# Altium integrated library Linear Technology Power Management System Supervisor, Monitor and Control.IntLib: 1611 symbols (part 49 of 100)
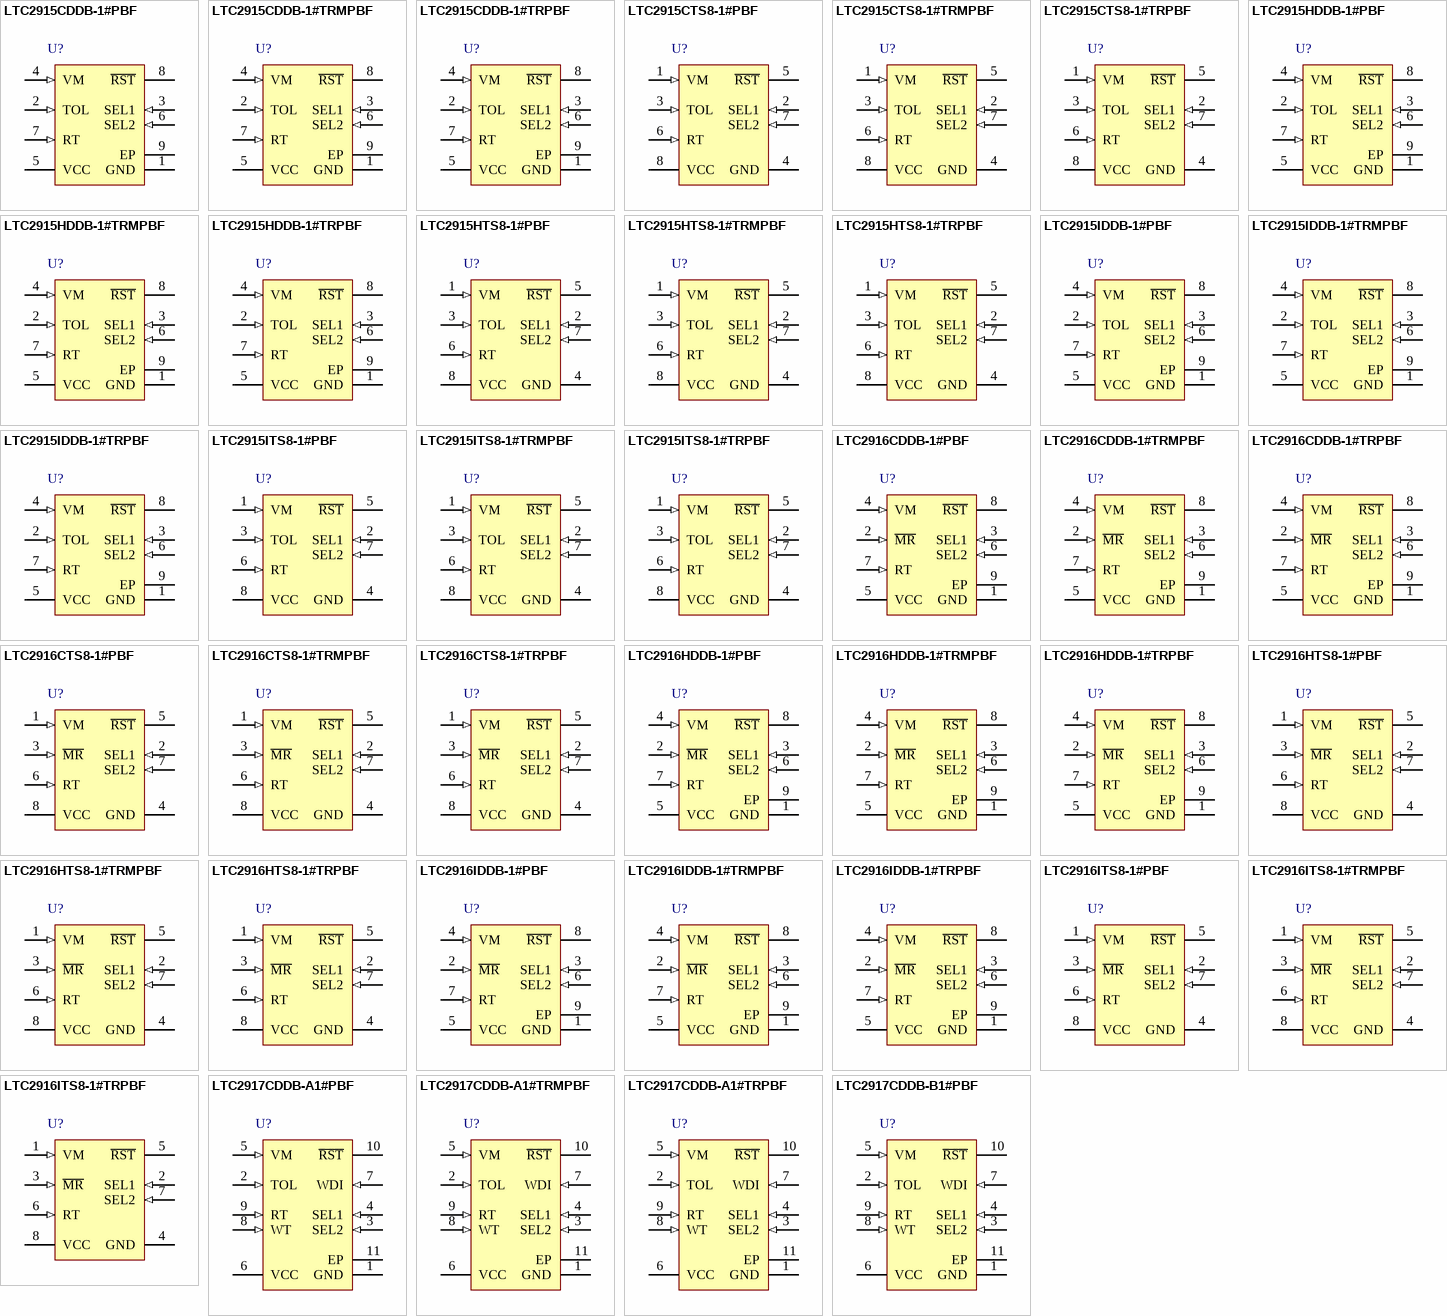
[diagram p93: symbols LTC2915CDDB-1#PBF to LTC2917CDDB-B1#PBF]

## LTC2915ITS8-1#TRPBF
designator U?
Low Voltage Supervisor with 27 Selectable Thresholds, 8-pin SOT23 (TS8-8), -40 to 85 degC, Pb-Free, Tape and Reel; Manufacturer: Linear Technology; PartNumber: LTC2915ITS8-1#TRPBF; Number of Supplies(#): 1; DatasheetVersion: Rev. A; PackageVersion: Rev. A, 08/2010; PackageReference: TS8-8; PackageDescription: 8-Pin Plastic TSOT-23, Body 2.9 x 1.63 mm, Pitch 0.65 mm; Supplier 1: Digi-Key; Supplier Part Number 1: LTC2915ITS8-1#TRPBF-ND; Supplier 2: Newark; Supplier Part Number 2: 56M6956; Packing: Tape and Reel; RoHS: TRUE; Mounting Technology: Surface Mount; Code_JEDEC: MO-193; ComponentLink1Description: Manufacturer URL; ComponentLink1URL: http://www.linear.com/; ComponentLink2Description: Datasheet; ComponentLink2URL: http://cds.linear.com/docs/en/datasheet/29156fa.pdf; ComponentLink3Description: Package Specification; ComponentLink3URL: http://cds.linear.com/docs/en/packaging/SOT_8_05-08-1637.pdf
footprint LT-TS8-8-TSOT-23_V (SOT23, 8-Leads, Body 2.9x1.75mm, Pitch 0.65mm)
pins: 1 VM (in) "Voltage Monitor Input to R\S\T\ Comparator. SEL1, SEL2 and TOL inputs select the exact threshold that asserts the R\S\T\ output.", 2 SEL1 (in) "Monitor Voltage Select Three-State Inputs. SEL1 and SEL2 control the nominal threshold voltage that VM is set to monitor. Connect to VCC, GND or leave unconnected in open state. (See Table 1).", 3 TOL (in) "Three-State Input for Supply Tolerance Selection (-5%, -10% or -15%). Controls the tolerance band at which the VM supply is monitored. Connect to VCC, GND, or leave unconnected in open state. (See Table 2).", 4 GND (power) "Device Ground.", 5 ~{RST} (oc) "Open Drain R\S\T\ Output. Asserts low when VM is below the threshold selected by SEL1, SEL2 and TOL input pins. Held low for an adjustable timeout after VM input is above threshold.", 6 RT (in) "Reset Timeout Control Pin. Attach an external Capacitor (CRT) to GND to set a reset timeout of 9ms/nF. Floating RT generates a reset timeout of approximately 400us. Tie RT to VCC to generate a reset timeout of approximately (See Datasheet)", 7 SEL2 (in) "Monitor Voltage Select Three-State Inputs. SEL1 and SEL2 control the nominal threshold voltage that VM is set to monitor. Connect to VCC, GND or leave unconnected in open state. (See Table 1).", 8 VCC (power) "Power Supply Input. Bypass this pin to ground with a 0.1uF ceramic capacitor. A minimum of 1.5V on VCC ensures that the part is out of under voltage lockout and that the voltage thresholds are accurate. Operates as a direct (See Datasheet)"

## LTC2916CDDB-1#PBF
designator U?
Low Voltage Supervisor with 9 Selectable Thresholds and Manual Reset Input, 8-pin SON (DDB-8), 0 to 70 degC, Pb-Free; Manufacturer: Linear Technology; PartNumber: LTC2916CDDB-1#PBF; Number of Supplies(#): 1; DatasheetVersion: Rev. A; PackageVersion: Rev. B, 06/2010; PackageReference: DDB-8; PackageDescription: 8-Pin Plastic DFN, Body 3 x 2 mm, Pitch 0.5 mm; RoHS: TRUE; Mounting Technology: Surface Mount; Code_JEDEC: MO-229; ComponentLink1Description: Manufacturer URL; ComponentLink1URL: http://www.linear.com/; ComponentLink2Description: Datasheet; ComponentLink2URL: http://cds.linear.com/docs/en/datasheet/29156fa.pdf; ComponentLink3Description: Package Specification; ComponentLink3URL: http://cds.linear.com/docs/en/packaging/DFN_8_05-08-1702.pdf
footprint LT-DDB-8_V (SON, 8-Leads, Body 3x2mm, Pitch 0.5mm, Thermal Pad 2.2x0.61mm)
pins: 1 GND (power) "Device Ground.", 2 ~{MR} (in) "Manual Reset Input (Active Low). A low level on the M\R\ input causes the part to issue a reset, which is released one reset timeout after the input goes high. The pin has an internal 100k pull-up to VCC, and thus may (See Datasheet)", 3 SEL1 (in) "Monitor Voltage Select Three-State Inputs. SEL1 and SEL2 control the nominal threshold voltage that VM is set to monitor. Connect to VCC, GND or leave unconnected in open state. (See Table 1).", 4 VM (in) "Voltage Monitor Input to R\S\T\ Comparator. SEL1, SEL2 and TOL inputs select the exact threshold that asserts the R\S\T\ output.", 5 VCC (power) "Power Supply Input. Bypass this pin to ground with a 0.1uF ceramic capacitor. A minimum of 1.5V on VCC ensures that the part is out of under voltage lockout and that the voltage thresholds are accurate. Operates as a direct (See Datasheet)", 6 SEL2 (in) "Monitor Voltage Select Three-State Inputs. SEL1 and SEL2 control the nominal threshold voltage that VM is set to monitor. Connect to VCC, GND or leave unconnected in open state. (See Table 1).", 7 RT (in) "Reset Timeout Control Pin. Attach an external Capacitor (CRT) to GND to set a reset timeout of 9ms/nF. Floating RT generates a reset timeout of approximately 400us. Tie RT to VCC to generate a reset timeout of approximately (See Datasheet)", 8 ~{RST} (oc) "Open Drain R\S\T\ Output. Asserts low when VM is below the threshold selected by SEL1, SEL2 and TOL input pins. Held low for an adjustable timeout after VM input is above threshold.", 9 EP (power) "Exposed Pad may be left open or connected to device ground."

## LTC2916CDDB-1#TRMPBF
designator U?
Low Voltage Supervisor with 9 Selectable Thresholds and Manual Reset Input, 8-pin SON (DDB-8), 0 to 70 degC, Pb-Free, Mini Tape and Reel; Manufacturer: Linear Technology; PartNumber: LTC2916CDDB-1#TRMPBF; Number of Supplies(#): 1; DatasheetVersion: Rev. A; PackageVersion: Rev. B, 06/2010; PackageReference: DDB-8; PackageDescription: 8-Pin Plastic DFN, Body 3 x 2 mm, Pitch 0.5 mm; Supplier 1: Digi-Key; Supplier Part Number 1: LTC2916CDDB-1#TRMPBFTR-ND; Supplier 2: Digi-Key; Supplier Part Number 2: LTC2916CDDB-1#TRMPBFCT-ND; Supplier 3: Digi-Key; Supplier Part Number 3: LTC2916CDDB-1#TRMPBFDKR-ND; Supplier 4: Farnell; Supplier Part Number 4: 1715066; Supplier 5: Newark; Supplier Part Number 5: 56M6957; Packing: Mini Tape and Reel; RoHS: TRUE; Mounting Technology: Surface Mount; Code_JEDEC: MO-229; ComponentLink1Description: Manufacturer URL; ComponentLink1URL: http://www.linear.com/; ComponentLink2Description: Datasheet; ComponentLink2URL: http://cds.linear.com/docs/en/datasheet/29156fa.pdf; ComponentLink3Description: Package Specification; ComponentLink3URL: http://cds.linear.com/docs/en/packaging/DFN_8_05-08-1702.pdf
footprint LT-DDB-8_V (SON, 8-Leads, Body 3x2mm, Pitch 0.5mm, Thermal Pad 2.2x0.61mm)
pins: 1 GND (power) "Device Ground.", 2 ~{MR} (in) "Manual Reset Input (Active Low). A low level on the M\R\ input causes the part to issue a reset, which is released one reset timeout after the input goes high. The pin has an internal 100k pull-up to VCC, and thus may (See Datasheet)", 3 SEL1 (in) "Monitor Voltage Select Three-State Inputs. SEL1 and SEL2 control the nominal threshold voltage that VM is set to monitor. Connect to VCC, GND or leave unconnected in open state. (See Table 1).", 4 VM (in) "Voltage Monitor Input to R\S\T\ Comparator. SEL1, SEL2 and TOL inputs select the exact threshold that asserts the R\S\T\ output.", 5 VCC (power) "Power Supply Input. Bypass this pin to ground with a 0.1uF ceramic capacitor. A minimum of 1.5V on VCC ensures that the part is out of under voltage lockout and that the voltage thresholds are accurate. Operates as a direct (See Datasheet)", 6 SEL2 (in) "Monitor Voltage Select Three-State Inputs. SEL1 and SEL2 control the nominal threshold voltage that VM is set to monitor. Connect to VCC, GND or leave unconnected in open state. (See Table 1).", 7 RT (in) "Reset Timeout Control Pin. Attach an external Capacitor (CRT) to GND to set a reset timeout of 9ms/nF. Floating RT generates a reset timeout of approximately 400us. Tie RT to VCC to generate a reset timeout of approximately (See Datasheet)", 8 ~{RST} (oc) "Open Drain R\S\T\ Output. Asserts low when VM is below the threshold selected by SEL1, SEL2 and TOL input pins. Held low for an adjustable timeout after VM input is above threshold.", 9 EP (power) "Exposed Pad may be left open or connected to device ground."

## LTC2916CDDB-1#TRPBF
designator U?
Low Voltage Supervisor with 9 Selectable Thresholds and Manual Reset Input, 8-pin SON (DDB-8), 0 to 70 degC, Pb-Free, Tape and Reel; Manufacturer: Linear Technology; PartNumber: LTC2916CDDB-1#TRPBF; Number of Supplies(#): 1; DatasheetVersion: Rev. A; PackageVersion: Rev. B, 06/2010; PackageReference: DDB-8; PackageDescription: 8-Pin Plastic DFN, Body 3 x 2 mm, Pitch 0.5 mm; Supplier 1: Digi-Key; Supplier Part Number 1: LTC2916CDDB-1#TRPBF-ND; Supplier 2: Newark; Supplier Part Number 2: 56M6958; Packing: Tape and Reel; RoHS: TRUE; Mounting Technology: Surface Mount; Code_JEDEC: MO-229; ComponentLink1Description: Manufacturer URL; ComponentLink1URL: http://www.linear.com/; ComponentLink2Description: Datasheet; ComponentLink2URL: http://cds.linear.com/docs/en/datasheet/29156fa.pdf; ComponentLink3Description: Package Specification; ComponentLink3URL: http://cds.linear.com/docs/en/packaging/DFN_8_05-08-1702.pdf
footprint LT-DDB-8_V (SON, 8-Leads, Body 3x2mm, Pitch 0.5mm, Thermal Pad 2.2x0.61mm)
pins: 1 GND (power) "Device Ground.", 2 ~{MR} (in) "Manual Reset Input (Active Low). A low level on the M\R\ input causes the part to issue a reset, which is released one reset timeout after the input goes high. The pin has an internal 100k pull-up to VCC, and thus may (See Datasheet)", 3 SEL1 (in) "Monitor Voltage Select Three-State Inputs. SEL1 and SEL2 control the nominal threshold voltage that VM is set to monitor. Connect to VCC, GND or leave unconnected in open state. (See Table 1).", 4 VM (in) "Voltage Monitor Input to R\S\T\ Comparator. SEL1, SEL2 and TOL inputs select the exact threshold that asserts the R\S\T\ output.", 5 VCC (power) "Power Supply Input. Bypass this pin to ground with a 0.1uF ceramic capacitor. A minimum of 1.5V on VCC ensures that the part is out of under voltage lockout and that the voltage thresholds are accurate. Operates as a direct (See Datasheet)", 6 SEL2 (in) "Monitor Voltage Select Three-State Inputs. SEL1 and SEL2 control the nominal threshold voltage that VM is set to monitor. Connect to VCC, GND or leave unconnected in open state. (See Table 1).", 7 RT (in) "Reset Timeout Control Pin. Attach an external Capacitor (CRT) to GND to set a reset timeout of 9ms/nF. Floating RT generates a reset timeout of approximately 400us. Tie RT to VCC to generate a reset timeout of approximately (See Datasheet)", 8 ~{RST} (oc) "Open Drain R\S\T\ Output. Asserts low when VM is below the threshold selected by SEL1, SEL2 and TOL input pins. Held low for an adjustable timeout after VM input is above threshold.", 9 EP (power) "Exposed Pad may be left open or connected to device ground."

## LTC2916CTS8-1#PBF
designator U?
Low Voltage Supervisor with 9 Selectable Thresholds and Manual Reset Input, 8-pin SOT23 (TS8-8), 0 to 70 degC, Pb-Free; Manufacturer: Linear Technology; PartNumber: LTC2916CTS8-1#PBF; Number of Supplies(#): 1; DatasheetVersion: Rev. A; PackageVersion: Rev. A, 08/2010; PackageReference: TS8-8; PackageDescription: 8-Pin Plastic TSOT-23, Body 2.9 x 1.63 mm, Pitch 0.65 mm; Supplier 1: Farnell; Supplier Part Number 1: 2295424; Supplier 2: Newark; Supplier Part Number 2: 10R5275; Supplier 3: Newark; Supplier Part Number 3: 69W6141; RoHS: TRUE; Mounting Technology: Surface Mount; Code_JEDEC: MO-193; ComponentLink1Description: Manufacturer URL; ComponentLink1URL: http://www.linear.com/; ComponentLink2Description: Datasheet; ComponentLink2URL: http://cds.linear.com/docs/en/datasheet/29156fa.pdf; ComponentLink3Description: Package Specification; ComponentLink3URL: http://cds.linear.com/docs/en/packaging/SOT_8_05-08-1637.pdf
footprint LT-TS8-8-TSOT-23_V (SOT23, 8-Leads, Body 2.9x1.75mm, Pitch 0.65mm)
pins: 1 VM (in) "Voltage Monitor Input to R\S\T\ Comparator. SEL1, SEL2 and TOL inputs select the exact threshold that asserts the R\S\T\ output.", 2 SEL1 (in) "Monitor Voltage Select Three-State Inputs. SEL1 and SEL2 control the nominal threshold voltage that VM is set to monitor. Connect to VCC, GND or leave unconnected in open state. (See Table 1).", 3 ~{MR} (in) "Manual Reset Input (Active Low). A low level on the M\R\ input causes the part to issue a reset, which is released one reset timeout after the input goes high. The pin has an internal 100k pull-up to VCC, and thus may (See Datasheet)", 4 GND (power) "Device Ground.", 5 ~{RST} (oc) "Open Drain R\S\T\ Output. Asserts low when VM is below the threshold selected by SEL1, SEL2 and TOL input pins. Held low for an adjustable timeout after VM input is above threshold.", 6 RT (in) "Reset Timeout Control Pin. Attach an external Capacitor (CRT) to GND to set a reset timeout of 9ms/nF. Floating RT generates a reset timeout of approximately 400us. Tie RT to VCC to generate a reset timeout of approximately (See Datasheet)", 7 SEL2 (in) "Monitor Voltage Select Three-State Inputs. SEL1 and SEL2 control the nominal threshold voltage that VM is set to monitor. Connect to VCC, GND or leave unconnected in open state. (See Table 1).", 8 VCC (power) "Power Supply Input. Bypass this pin to ground with a 0.1uF ceramic capacitor. A minimum of 1.5V on VCC ensures that the part is out of under voltage lockout and that the voltage thresholds are accurate. Operates as a direct (See Datasheet)"

## LTC2916CTS8-1#TRMPBF
designator U?
Low Voltage Supervisor with 9 Selectable Thresholds and Manual Reset Input, 8-pin SOT23 (TS8-8), 0 to 70 degC, Pb-Free, Mini Tape and Reel; Manufacturer: Linear Technology; PartNumber: LTC2916CTS8-1#TRMPBF; Number of Supplies(#): 1; DatasheetVersion: Rev. A; PackageVersion: Rev. A, 08/2010; PackageReference: TS8-8; PackageDescription: 8-Pin Plastic TSOT-23, Body 2.9 x 1.63 mm, Pitch 0.65 mm; Supplier 1: Digi-Key; Supplier Part Number 1: LTC2916CTS8-1#TRMPBFTR-ND; Supplier 2: Digi-Key; Supplier Part Number 2: LTC2916CTS8-1#TRMPBFCT-ND; Supplier 3: Digi-Key; Supplier Part Number 3: LTC2916CTS8-1#TRMPBFDKR-ND; Supplier 4: Newark; Supplier Part Number 4: 56M6959; Packing: Mini Tape and Reel; RoHS: TRUE; Mounting Technology: Surface Mount; Code_JEDEC: MO-193; ComponentLink1Description: Manufacturer URL; ComponentLink1URL: http://www.linear.com/; ComponentLink2Description: Datasheet; ComponentLink2URL: http://cds.linear.com/docs/en/datasheet/29156fa.pdf; ComponentLink3Description: Package Specification; ComponentLink3URL: http://cds.linear.com/docs/en/packaging/SOT_8_05-08-1637.pdf
footprint LT-TS8-8-TSOT-23_V (SOT23, 8-Leads, Body 2.9x1.75mm, Pitch 0.65mm)
pins: 1 VM (in) "Voltage Monitor Input to R\S\T\ Comparator. SEL1, SEL2 and TOL inputs select the exact threshold that asserts the R\S\T\ output.", 2 SEL1 (in) "Monitor Voltage Select Three-State Inputs. SEL1 and SEL2 control the nominal threshold voltage that VM is set to monitor. Connect to VCC, GND or leave unconnected in open state. (See Table 1).", 3 ~{MR} (in) "Manual Reset Input (Active Low). A low level on the M\R\ input causes the part to issue a reset, which is released one reset timeout after the input goes high. The pin has an internal 100k pull-up to VCC, and thus may (See Datasheet)", 4 GND (power) "Device Ground.", 5 ~{RST} (oc) "Open Drain R\S\T\ Output. Asserts low when VM is below the threshold selected by SEL1, SEL2 and TOL input pins. Held low for an adjustable timeout after VM input is above threshold.", 6 RT (in) "Reset Timeout Control Pin. Attach an external Capacitor (CRT) to GND to set a reset timeout of 9ms/nF. Floating RT generates a reset timeout of approximately 400us. Tie RT to VCC to generate a reset timeout of approximately (See Datasheet)", 7 SEL2 (in) "Monitor Voltage Select Three-State Inputs. SEL1 and SEL2 control the nominal threshold voltage that VM is set to monitor. Connect to VCC, GND or leave unconnected in open state. (See Table 1).", 8 VCC (power) "Power Supply Input. Bypass this pin to ground with a 0.1uF ceramic capacitor. A minimum of 1.5V on VCC ensures that the part is out of under voltage lockout and that the voltage thresholds are accurate. Operates as a direct (See Datasheet)"

## LTC2916CTS8-1#TRPBF
designator U?
Low Voltage Supervisor with 9 Selectable Thresholds and Manual Reset Input, 8-pin SOT23 (TS8-8), 0 to 70 degC, Pb-Free, Tape and Reel; Manufacturer: Linear Technology; PartNumber: LTC2916CTS8-1#TRPBF; Number of Supplies(#): 1; DatasheetVersion: Rev. A; PackageVersion: Rev. A, 08/2010; PackageReference: TS8-8; PackageDescription: 8-Pin Plastic TSOT-23, Body 2.9 x 1.63 mm, Pitch 0.65 mm; Supplier 1: Digi-Key; Supplier Part Number 1: LTC2916CTS8-1#TRPBF-ND; Packing: Tape and Reel; RoHS: TRUE; Mounting Technology: Surface Mount; Code_JEDEC: MO-193; ComponentLink1Description: Manufacturer URL; ComponentLink1URL: http://www.linear.com/; ComponentLink2Description: Datasheet; ComponentLink2URL: http://cds.linear.com/docs/en/datasheet/29156fa.pdf; ComponentLink3Description: Package Specification; ComponentLink3URL: http://cds.linear.com/docs/en/packaging/SOT_8_05-08-1637.pdf
footprint LT-TS8-8-TSOT-23_V (SOT23, 8-Leads, Body 2.9x1.75mm, Pitch 0.65mm)
pins: 1 VM (in) "Voltage Monitor Input to R\S\T\ Comparator. SEL1, SEL2 and TOL inputs select the exact threshold that asserts the R\S\T\ output.", 2 SEL1 (in) "Monitor Voltage Select Three-State Inputs. SEL1 and SEL2 control the nominal threshold voltage that VM is set to monitor. Connect to VCC, GND or leave unconnected in open state. (See Table 1).", 3 ~{MR} (in) "Manual Reset Input (Active Low). A low level on the M\R\ input causes the part to issue a reset, which is released one reset timeout after the input goes high. The pin has an internal 100k pull-up to VCC, and thus may (See Datasheet)", 4 GND (power) "Device Ground.", 5 ~{RST} (oc) "Open Drain R\S\T\ Output. Asserts low when VM is below the threshold selected by SEL1, SEL2 and TOL input pins. Held low for an adjustable timeout after VM input is above threshold.", 6 RT (in) "Reset Timeout Control Pin. Attach an external Capacitor (CRT) to GND to set a reset timeout of 9ms/nF. Floating RT generates a reset timeout of approximately 400us. Tie RT to VCC to generate a reset timeout of approximately (See Datasheet)", 7 SEL2 (in) "Monitor Voltage Select Three-State Inputs. SEL1 and SEL2 control the nominal threshold voltage that VM is set to monitor. Connect to VCC, GND or leave unconnected in open state. (See Table 1).", 8 VCC (power) "Power Supply Input. Bypass this pin to ground with a 0.1uF ceramic capacitor. A minimum of 1.5V on VCC ensures that the part is out of under voltage lockout and that the voltage thresholds are accurate. Operates as a direct (See Datasheet)"

## LTC2916HDDB-1#PBF
designator U?
Low Voltage Supervisor with 9 Selectable Thresholds and Manual Reset Input, 8-pin SON (DDB-8), -40 to 125 degC, Pb-Free; Manufacturer: Linear Technology; PartNumber: LTC2916HDDB-1#PBF; Number of Supplies(#): 1; DatasheetVersion: Rev. A; PackageVersion: Rev. B, 06/2010; PackageReference: DDB-8; PackageDescription: 8-Pin Plastic DFN, Body 3 x 2 mm, Pitch 0.5 mm; RoHS: TRUE; Mounting Technology: Surface Mount; Code_JEDEC: MO-229; ComponentLink1Description: Manufacturer URL; ComponentLink1URL: http://www.linear.com/; ComponentLink2Description: Datasheet; ComponentLink2URL: http://cds.linear.com/docs/en/datasheet/29156fa.pdf; ComponentLink3Description: Package Specification; ComponentLink3URL: http://cds.linear.com/docs/en/packaging/DFN_8_05-08-1702.pdf
footprint LT-DDB-8_V (SON, 8-Leads, Body 3x2mm, Pitch 0.5mm, Thermal Pad 2.2x0.61mm)
pins: 1 GND (power) "Device Ground.", 2 ~{MR} (in) "Manual Reset Input (Active Low). A low level on the M\R\ input causes the part to issue a reset, which is released one reset timeout after the input goes high. The pin has an internal 100k pull-up to VCC, and thus may (See Datasheet)", 3 SEL1 (in) "Monitor Voltage Select Three-State Inputs. SEL1 and SEL2 control the nominal threshold voltage that VM is set to monitor. Connect to VCC, GND or leave unconnected in open state. (See Table 1).", 4 VM (in) "Voltage Monitor Input to R\S\T\ Comparator. SEL1, SEL2 and TOL inputs select the exact threshold that asserts the R\S\T\ output.", 5 VCC (power) "Power Supply Input. Bypass this pin to ground with a 0.1uF ceramic capacitor. A minimum of 1.5V on VCC ensures that the part is out of under voltage lockout and that the voltage thresholds are accurate. Operates as a direct (See Datasheet)", 6 SEL2 (in) "Monitor Voltage Select Three-State Inputs. SEL1 and SEL2 control the nominal threshold voltage that VM is set to monitor. Connect to VCC, GND or leave unconnected in open state. (See Table 1).", 7 RT (in) "Reset Timeout Control Pin. Attach an external Capacitor (CRT) to GND to set a reset timeout of 9ms/nF. Floating RT generates a reset timeout of approximately 400us. Tie RT to VCC to generate a reset timeout of approximately (See Datasheet)", 8 ~{RST} (oc) "Open Drain R\S\T\ Output. Asserts low when VM is below the threshold selected by SEL1, SEL2 and TOL input pins. Held low for an adjustable timeout after VM input is above threshold.", 9 EP (power) "Exposed Pad may be left open or connected to device ground."

## LTC2916HDDB-1#TRMPBF
designator U?
Low Voltage Supervisor with 9 Selectable Thresholds and Manual Reset Input, 8-pin SON (DDB-8), -40 to 125 degC, Pb-Free, Mini Tape and Reel; Manufacturer: Linear Technology; PartNumber: LTC2916HDDB-1#TRMPBF; Number of Supplies(#): 1; DatasheetVersion: Rev. A; PackageVersion: Rev. B, 06/2010; PackageReference: DDB-8; PackageDescription: 8-Pin Plastic DFN, Body 3 x 2 mm, Pitch 0.5 mm; Supplier 1: Digi-Key; Supplier Part Number 1: LTC2916HDDB-1#TRMPBFTR-ND; Supplier 2: Digi-Key; Supplier Part Number 2: LTC2916HDDB-1#TRMPBFCT-ND; Supplier 3: Digi-Key; Supplier Part Number 3: LTC2916HDDB-1#TRMPBFDKR-ND; Supplier 4: Farnell; Supplier Part Number 4: 1715067; Supplier 5: Farnell; Supplier Part Number 5: 1715067RL; Packing: Mini Tape and Reel; RoHS: TRUE; Mounting Technology: Surface Mount; Code_JEDEC: MO-229; ComponentLink1Description: Manufacturer URL; ComponentLink1URL: http://www.linear.com/; ComponentLink2Description: Datasheet; ComponentLink2URL: http://cds.linear.com/docs/en/datasheet/29156fa.pdf; ComponentLink3Description: Package Specification; ComponentLink3URL: http://cds.linear.com/docs/en/packaging/DFN_8_05-08-1702.pdf
footprint LT-DDB-8_V (SON, 8-Leads, Body 3x2mm, Pitch 0.5mm, Thermal Pad 2.2x0.61mm)
pins: 1 GND (power) "Device Ground.", 2 ~{MR} (in) "Manual Reset Input (Active Low). A low level on the M\R\ input causes the part to issue a reset, which is released one reset timeout after the input goes high. The pin has an internal 100k pull-up to VCC, and thus may (See Datasheet)", 3 SEL1 (in) "Monitor Voltage Select Three-State Inputs. SEL1 and SEL2 control the nominal threshold voltage that VM is set to monitor. Connect to VCC, GND or leave unconnected in open state. (See Table 1).", 4 VM (in) "Voltage Monitor Input to R\S\T\ Comparator. SEL1, SEL2 and TOL inputs select the exact threshold that asserts the R\S\T\ output.", 5 VCC (power) "Power Supply Input. Bypass this pin to ground with a 0.1uF ceramic capacitor. A minimum of 1.5V on VCC ensures that the part is out of under voltage lockout and that the voltage thresholds are accurate. Operates as a direct (See Datasheet)", 6 SEL2 (in) "Monitor Voltage Select Three-State Inputs. SEL1 and SEL2 control the nominal threshold voltage that VM is set to monitor. Connect to VCC, GND or leave unconnected in open state. (See Table 1).", 7 RT (in) "Reset Timeout Control Pin. Attach an external Capacitor (CRT) to GND to set a reset timeout of 9ms/nF. Floating RT generates a reset timeout of approximately 400us. Tie RT to VCC to generate a reset timeout of approximately (See Datasheet)", 8 ~{RST} (oc) "Open Drain R\S\T\ Output. Asserts low when VM is below the threshold selected by SEL1, SEL2 and TOL input pins. Held low for an adjustable timeout after VM input is above threshold.", 9 EP (power) "Exposed Pad may be left open or connected to device ground."

## LTC2916HDDB-1#TRPBF
designator U?
Low Voltage Supervisor with 9 Selectable Thresholds and Manual Reset Input, 8-pin SON (DDB-8), -40 to 125 degC, Pb-Free, Tape and Reel; Manufacturer: Linear Technology; PartNumber: LTC2916HDDB-1#TRPBF; Number of Supplies(#): 1; DatasheetVersion: Rev. A; PackageVersion: Rev. B, 06/2010; PackageReference: DDB-8; PackageDescription: 8-Pin Plastic DFN, Body 3 x 2 mm, Pitch 0.5 mm; Supplier 1: Digi-Key; Supplier Part Number 1: LTC2916HDDB-1#TRPBF-ND; Supplier 2: Newark; Supplier Part Number 2: 56M6962; Packing: Tape and Reel; RoHS: TRUE; Mounting Technology: Surface Mount; Code_JEDEC: MO-229; ComponentLink1Description: Manufacturer URL; ComponentLink1URL: http://www.linear.com/; ComponentLink2Description: Datasheet; ComponentLink2URL: http://cds.linear.com/docs/en/datasheet/29156fa.pdf; ComponentLink3Description: Package Specification; ComponentLink3URL: http://cds.linear.com/docs/en/packaging/DFN_8_05-08-1702.pdf
footprint LT-DDB-8_V (SON, 8-Leads, Body 3x2mm, Pitch 0.5mm, Thermal Pad 2.2x0.61mm)
pins: 1 GND (power) "Device Ground.", 2 ~{MR} (in) "Manual Reset Input (Active Low). A low level on the M\R\ input causes the part to issue a reset, which is released one reset timeout after the input goes high. The pin has an internal 100k pull-up to VCC, and thus may (See Datasheet)", 3 SEL1 (in) "Monitor Voltage Select Three-State Inputs. SEL1 and SEL2 control the nominal threshold voltage that VM is set to monitor. Connect to VCC, GND or leave unconnected in open state. (See Table 1).", 4 VM (in) "Voltage Monitor Input to R\S\T\ Comparator. SEL1, SEL2 and TOL inputs select the exact threshold that asserts the R\S\T\ output.", 5 VCC (power) "Power Supply Input. Bypass this pin to ground with a 0.1uF ceramic capacitor. A minimum of 1.5V on VCC ensures that the part is out of under voltage lockout and that the voltage thresholds are accurate. Operates as a direct (See Datasheet)", 6 SEL2 (in) "Monitor Voltage Select Three-State Inputs. SEL1 and SEL2 control the nominal threshold voltage that VM is set to monitor. Connect to VCC, GND or leave unconnected in open state. (See Table 1).", 7 RT (in) "Reset Timeout Control Pin. Attach an external Capacitor (CRT) to GND to set a reset timeout of 9ms/nF. Floating RT generates a reset timeout of approximately 400us. Tie RT to VCC to generate a reset timeout of approximately (See Datasheet)", 8 ~{RST} (oc) "Open Drain R\S\T\ Output. Asserts low when VM is below the threshold selected by SEL1, SEL2 and TOL input pins. Held low for an adjustable timeout after VM input is above threshold.", 9 EP (power) "Exposed Pad may be left open or connected to device ground."

## LTC2916HTS8-1#PBF
designator U?
Low Voltage Supervisor with 9 Selectable Thresholds and Manual Reset Input, 8-pin SOT23 (TS8-8), -40 to 125 degC, Pb-Free; Manufacturer: Linear Technology; PartNumber: LTC2916HTS8-1#PBF; Number of Supplies(#): 1; DatasheetVersion: Rev. A; PackageVersion: Rev. A, 08/2010; PackageReference: TS8-8; PackageDescription: 8-Pin Plastic TSOT-23, Body 2.9 x 1.63 mm, Pitch 0.65 mm; Supplier 1: Newark; Supplier Part Number 1: 69W6142; Supplier 2: Newark; Supplier Part Number 2: 27R0215; RoHS: TRUE; Mounting Technology: Surface Mount; Code_JEDEC: MO-193; ComponentLink1Description: Manufacturer URL; ComponentLink1URL: http://www.linear.com/; ComponentLink2Description: Datasheet; ComponentLink2URL: http://cds.linear.com/docs/en/datasheet/29156fa.pdf; ComponentLink3Description: Package Specification; ComponentLink3URL: http://cds.linear.com/docs/en/packaging/SOT_8_05-08-1637.pdf
footprint LT-TS8-8-TSOT-23_V (SOT23, 8-Leads, Body 2.9x1.75mm, Pitch 0.65mm)
pins: 1 VM (in) "Voltage Monitor Input to R\S\T\ Comparator. SEL1, SEL2 and TOL inputs select the exact threshold that asserts the R\S\T\ output.", 2 SEL1 (in) "Monitor Voltage Select Three-State Inputs. SEL1 and SEL2 control the nominal threshold voltage that VM is set to monitor. Connect to VCC, GND or leave unconnected in open state. (See Table 1).", 3 ~{MR} (in) "Manual Reset Input (Active Low). A low level on the M\R\ input causes the part to issue a reset, which is released one reset timeout after the input goes high. The pin has an internal 100k pull-up to VCC, and thus may (See Datasheet)", 4 GND (power) "Device Ground.", 5 ~{RST} (oc) "Open Drain R\S\T\ Output. Asserts low when VM is below the threshold selected by SEL1, SEL2 and TOL input pins. Held low for an adjustable timeout after VM input is above threshold.", 6 RT (in) "Reset Timeout Control Pin. Attach an external Capacitor (CRT) to GND to set a reset timeout of 9ms/nF. Floating RT generates a reset timeout of approximately 400us. Tie RT to VCC to generate a reset timeout of approximately (See Datasheet)", 7 SEL2 (in) "Monitor Voltage Select Three-State Inputs. SEL1 and SEL2 control the nominal threshold voltage that VM is set to monitor. Connect to VCC, GND or leave unconnected in open state. (See Table 1).", 8 VCC (power) "Power Supply Input. Bypass this pin to ground with a 0.1uF ceramic capacitor. A minimum of 1.5V on VCC ensures that the part is out of under voltage lockout and that the voltage thresholds are accurate. Operates as a direct (See Datasheet)"

## LTC2916HTS8-1#TRMPBF
designator U?
Low Voltage Supervisor with 9 Selectable Thresholds and Manual Reset Input, 8-pin SOT23 (TS8-8), -40 to 125 degC, Pb-Free, Mini Tape and Reel; Manufacturer: Linear Technology; PartNumber: LTC2916HTS8-1#TRMPBF; Number of Supplies(#): 1; DatasheetVersion: Rev. A; PackageVersion: Rev. A, 08/2010; PackageReference: TS8-8; PackageDescription: 8-Pin Plastic TSOT-23, Body 2.9 x 1.63 mm, Pitch 0.65 mm; Supplier 1: Digi-Key; Supplier Part Number 1: LTC2916HTS8-1#TRMPBFTR-ND; Supplier 2: Digi-Key; Supplier Part Number 2: LTC2916HTS8-1#TRMPBFCT-ND; Supplier 3: Digi-Key; Supplier Part Number 3: LTC2916HTS8-1#TRMPBFDKR-ND; Packing: Mini Tape and Reel; RoHS: TRUE; Mounting Technology: Surface Mount; Code_JEDEC: MO-193; ComponentLink1Description: Manufacturer URL; ComponentLink1URL: http://www.linear.com/; ComponentLink2Description: Datasheet; ComponentLink2URL: http://cds.linear.com/docs/en/datasheet/29156fa.pdf; ComponentLink3Description: Package Specification; ComponentLink3URL: http://cds.linear.com/docs/en/packaging/SOT_8_05-08-1637.pdf
footprint LT-TS8-8-TSOT-23_V (SOT23, 8-Leads, Body 2.9x1.75mm, Pitch 0.65mm)
pins: 1 VM (in) "Voltage Monitor Input to R\S\T\ Comparator. SEL1, SEL2 and TOL inputs select the exact threshold that asserts the R\S\T\ output.", 2 SEL1 (in) "Monitor Voltage Select Three-State Inputs. SEL1 and SEL2 control the nominal threshold voltage that VM is set to monitor. Connect to VCC, GND or leave unconnected in open state. (See Table 1).", 3 ~{MR} (in) "Manual Reset Input (Active Low). A low level on the M\R\ input causes the part to issue a reset, which is released one reset timeout after the input goes high. The pin has an internal 100k pull-up to VCC, and thus may (See Datasheet)", 4 GND (power) "Device Ground.", 5 ~{RST} (oc) "Open Drain R\S\T\ Output. Asserts low when VM is below the threshold selected by SEL1, SEL2 and TOL input pins. Held low for an adjustable timeout after VM input is above threshold.", 6 RT (in) "Reset Timeout Control Pin. Attach an external Capacitor (CRT) to GND to set a reset timeout of 9ms/nF. Floating RT generates a reset timeout of approximately 400us. Tie RT to VCC to generate a reset timeout of approximately (See Datasheet)", 7 SEL2 (in) "Monitor Voltage Select Three-State Inputs. SEL1 and SEL2 control the nominal threshold voltage that VM is set to monitor. Connect to VCC, GND or leave unconnected in open state. (See Table 1).", 8 VCC (power) "Power Supply Input. Bypass this pin to ground with a 0.1uF ceramic capacitor. A minimum of 1.5V on VCC ensures that the part is out of under voltage lockout and that the voltage thresholds are accurate. Operates as a direct (See Datasheet)"

## LTC2916HTS8-1#TRPBF
designator U?
Low Voltage Supervisor with 9 Selectable Thresholds and Manual Reset Input, 8-pin SOT23 (TS8-8), -40 to 125 degC, Pb-Free, Tape and Reel; Manufacturer: Linear Technology; PartNumber: LTC2916HTS8-1#TRPBF; Number of Supplies(#): 1; DatasheetVersion: Rev. A; PackageVersion: Rev. A, 08/2010; PackageReference: TS8-8; PackageDescription: 8-Pin Plastic TSOT-23, Body 2.9 x 1.63 mm, Pitch 0.65 mm; Supplier 1: Digi-Key; Supplier Part Number 1: LTC2916HTS8-1#TRPBF-ND; Packing: Tape and Reel; RoHS: TRUE; Mounting Technology: Surface Mount; Code_JEDEC: MO-193; ComponentLink1Description: Manufacturer URL; ComponentLink1URL: http://www.linear.com/; ComponentLink2Description: Datasheet; ComponentLink2URL: http://cds.linear.com/docs/en/datasheet/29156fa.pdf; ComponentLink3Description: Package Specification; ComponentLink3URL: http://cds.linear.com/docs/en/packaging/SOT_8_05-08-1637.pdf
footprint LT-TS8-8-TSOT-23_V (SOT23, 8-Leads, Body 2.9x1.75mm, Pitch 0.65mm)
pins: 1 VM (in) "Voltage Monitor Input to R\S\T\ Comparator. SEL1, SEL2 and TOL inputs select the exact threshold that asserts the R\S\T\ output.", 2 SEL1 (in) "Monitor Voltage Select Three-State Inputs. SEL1 and SEL2 control the nominal threshold voltage that VM is set to monitor. Connect to VCC, GND or leave unconnected in open state. (See Table 1).", 3 ~{MR} (in) "Manual Reset Input (Active Low). A low level on the M\R\ input causes the part to issue a reset, which is released one reset timeout after the input goes high. The pin has an internal 100k pull-up to VCC, and thus may (See Datasheet)", 4 GND (power) "Device Ground.", 5 ~{RST} (oc) "Open Drain R\S\T\ Output. Asserts low when VM is below the threshold selected by SEL1, SEL2 and TOL input pins. Held low for an adjustable timeout after VM input is above threshold.", 6 RT (in) "Reset Timeout Control Pin. Attach an external Capacitor (CRT) to GND to set a reset timeout of 9ms/nF. Floating RT generates a reset timeout of approximately 400us. Tie RT to VCC to generate a reset timeout of approximately (See Datasheet)", 7 SEL2 (in) "Monitor Voltage Select Three-State Inputs. SEL1 and SEL2 control the nominal threshold voltage that VM is set to monitor. Connect to VCC, GND or leave unconnected in open state. (See Table 1).", 8 VCC (power) "Power Supply Input. Bypass this pin to ground with a 0.1uF ceramic capacitor. A minimum of 1.5V on VCC ensures that the part is out of under voltage lockout and that the voltage thresholds are accurate. Operates as a direct (See Datasheet)"

## LTC2916IDDB-1#PBF
designator U?
Low Voltage Supervisor with 9 Selectable Thresholds and Manual Reset Input, 8-pin SON (DDB-8), -40 to 85 degC, Pb-Free; Manufacturer: Linear Technology; PartNumber: LTC2916IDDB-1#PBF; Number of Supplies(#): 1; DatasheetVersion: Rev. A; PackageVersion: Rev. B, 06/2010; PackageReference: DDB-8; PackageDescription: 8-Pin Plastic DFN, Body 3 x 2 mm, Pitch 0.5 mm; RoHS: TRUE; Mounting Technology: Surface Mount; Code_JEDEC: MO-229; ComponentLink1Description: Manufacturer URL; ComponentLink1URL: http://www.linear.com/; ComponentLink2Description: Datasheet; ComponentLink2URL: http://cds.linear.com/docs/en/datasheet/29156fa.pdf; ComponentLink3Description: Package Specification; ComponentLink3URL: http://cds.linear.com/docs/en/packaging/DFN_8_05-08-1702.pdf
footprint LT-DDB-8_V (SON, 8-Leads, Body 3x2mm, Pitch 0.5mm, Thermal Pad 2.2x0.61mm)
pins: 1 GND (power) "Device Ground.", 2 ~{MR} (in) "Manual Reset Input (Active Low). A low level on the M\R\ input causes the part to issue a reset, which is released one reset timeout after the input goes high. The pin has an internal 100k pull-up to VCC, and thus may (See Datasheet)", 3 SEL1 (in) "Monitor Voltage Select Three-State Inputs. SEL1 and SEL2 control the nominal threshold voltage that VM is set to monitor. Connect to VCC, GND or leave unconnected in open state. (See Table 1).", 4 VM (in) "Voltage Monitor Input to R\S\T\ Comparator. SEL1, SEL2 and TOL inputs select the exact threshold that asserts the R\S\T\ output.", 5 VCC (power) "Power Supply Input. Bypass this pin to ground with a 0.1uF ceramic capacitor. A minimum of 1.5V on VCC ensures that the part is out of under voltage lockout and that the voltage thresholds are accurate. Operates as a direct (See Datasheet)", 6 SEL2 (in) "Monitor Voltage Select Three-State Inputs. SEL1 and SEL2 control the nominal threshold voltage that VM is set to monitor. Connect to VCC, GND or leave unconnected in open state. (See Table 1).", 7 RT (in) "Reset Timeout Control Pin. Attach an external Capacitor (CRT) to GND to set a reset timeout of 9ms/nF. Floating RT generates a reset timeout of approximately 400us. Tie RT to VCC to generate a reset timeout of approximately (See Datasheet)", 8 ~{RST} (oc) "Open Drain R\S\T\ Output. Asserts low when VM is below the threshold selected by SEL1, SEL2 and TOL input pins. Held low for an adjustable timeout after VM input is above threshold.", 9 EP (power) "Exposed Pad may be left open or connected to device ground."

## LTC2916IDDB-1#TRMPBF
designator U?
Low Voltage Supervisor with 9 Selectable Thresholds and Manual Reset Input, 8-pin SON (DDB-8), -40 to 85 degC, Pb-Free, Mini Tape and Reel; Manufacturer: Linear Technology; PartNumber: LTC2916IDDB-1#TRMPBF; Number of Supplies(#): 1; DatasheetVersion: Rev. A; PackageVersion: Rev. B, 06/2010; PackageReference: DDB-8; PackageDescription: 8-Pin Plastic DFN, Body 3 x 2 mm, Pitch 0.5 mm; Supplier 1: Digi-Key; Supplier Part Number 1: LTC2916IDDB-1#TRMPBFTR-ND; Supplier 2: Digi-Key; Supplier Part Number 2: LTC2916IDDB-1#TRMPBFCT-ND; Supplier 3: Digi-Key; Supplier Part Number 3: LTC2916IDDB-1#TRMPBFDKR-ND; Supplier 4: Farnell; Supplier Part Number 4: 1715068; Packing: Mini Tape and Reel; RoHS: TRUE; Mounting Technology: Surface Mount; Code_JEDEC: MO-229; ComponentLink1Description: Manufacturer URL; ComponentLink1URL: http://www.linear.com/; ComponentLink2Description: Datasheet; ComponentLink2URL: http://cds.linear.com/docs/en/datasheet/29156fa.pdf; ComponentLink3Description: Package Specification; ComponentLink3URL: http://cds.linear.com/docs/en/packaging/DFN_8_05-08-1702.pdf
footprint LT-DDB-8_V (SON, 8-Leads, Body 3x2mm, Pitch 0.5mm, Thermal Pad 2.2x0.61mm)
pins: 1 GND (power) "Device Ground.", 2 ~{MR} (in) "Manual Reset Input (Active Low). A low level on the M\R\ input causes the part to issue a reset, which is released one reset timeout after the input goes high. The pin has an internal 100k pull-up to VCC, and thus may (See Datasheet)", 3 SEL1 (in) "Monitor Voltage Select Three-State Inputs. SEL1 and SEL2 control the nominal threshold voltage that VM is set to monitor. Connect to VCC, GND or leave unconnected in open state. (See Table 1).", 4 VM (in) "Voltage Monitor Input to R\S\T\ Comparator. SEL1, SEL2 and TOL inputs select the exact threshold that asserts the R\S\T\ output.", 5 VCC (power) "Power Supply Input. Bypass this pin to ground with a 0.1uF ceramic capacitor. A minimum of 1.5V on VCC ensures that the part is out of under voltage lockout and that the voltage thresholds are accurate. Operates as a direct (See Datasheet)", 6 SEL2 (in) "Monitor Voltage Select Three-State Inputs. SEL1 and SEL2 control the nominal threshold voltage that VM is set to monitor. Connect to VCC, GND or leave unconnected in open state. (See Table 1).", 7 RT (in) "Reset Timeout Control Pin. Attach an external Capacitor (CRT) to GND to set a reset timeout of 9ms/nF. Floating RT generates a reset timeout of approximately 400us. Tie RT to VCC to generate a reset timeout of approximately (See Datasheet)", 8 ~{RST} (oc) "Open Drain R\S\T\ Output. Asserts low when VM is below the threshold selected by SEL1, SEL2 and TOL input pins. Held low for an adjustable timeout after VM input is above threshold.", 9 EP (power) "Exposed Pad may be left open or connected to device ground."

## LTC2916IDDB-1#TRPBF
designator U?
Low Voltage Supervisor with 9 Selectable Thresholds and Manual Reset Input, 8-pin SON (DDB-8), -40 to 85 degC, Pb-Free, Tape and Reel; Manufacturer: Linear Technology; PartNumber: LTC2916IDDB-1#TRPBF; Number of Supplies(#): 1; DatasheetVersion: Rev. A; PackageVersion: Rev. B, 06/2010; PackageReference: DDB-8; PackageDescription: 8-Pin Plastic DFN, Body 3 x 2 mm, Pitch 0.5 mm; Supplier 1: Digi-Key; Supplier Part Number 1: LTC2916IDDB-1#TRPBF-ND; Packing: Tape and Reel; RoHS: TRUE; Mounting Technology: Surface Mount; Code_JEDEC: MO-229; ComponentLink1Description: Manufacturer URL; ComponentLink1URL: http://www.linear.com/; ComponentLink2Description: Datasheet; ComponentLink2URL: http://cds.linear.com/docs/en/datasheet/29156fa.pdf; ComponentLink3Description: Package Specification; ComponentLink3URL: http://cds.linear.com/docs/en/packaging/DFN_8_05-08-1702.pdf
footprint LT-DDB-8_V (SON, 8-Leads, Body 3x2mm, Pitch 0.5mm, Thermal Pad 2.2x0.61mm)
pins: 1 GND (power) "Device Ground.", 2 ~{MR} (in) "Manual Reset Input (Active Low). A low level on the M\R\ input causes the part to issue a reset, which is released one reset timeout after the input goes high. The pin has an internal 100k pull-up to VCC, and thus may (See Datasheet)", 3 SEL1 (in) "Monitor Voltage Select Three-State Inputs. SEL1 and SEL2 control the nominal threshold voltage that VM is set to monitor. Connect to VCC, GND or leave unconnected in open state. (See Table 1).", 4 VM (in) "Voltage Monitor Input to R\S\T\ Comparator. SEL1, SEL2 and TOL inputs select the exact threshold that asserts the R\S\T\ output.", 5 VCC (power) "Power Supply Input. Bypass this pin to ground with a 0.1uF ceramic capacitor. A minimum of 1.5V on VCC ensures that the part is out of under voltage lockout and that the voltage thresholds are accurate. Operates as a direct (See Datasheet)", 6 SEL2 (in) "Monitor Voltage Select Three-State Inputs. SEL1 and SEL2 control the nominal threshold voltage that VM is set to monitor. Connect to VCC, GND or leave unconnected in open state. (See Table 1).", 7 RT (in) "Reset Timeout Control Pin. Attach an external Capacitor (CRT) to GND to set a reset timeout of 9ms/nF. Floating RT generates a reset timeout of approximately 400us. Tie RT to VCC to generate a reset timeout of approximately (See Datasheet)", 8 ~{RST} (oc) "Open Drain R\S\T\ Output. Asserts low when VM is below the threshold selected by SEL1, SEL2 and TOL input pins. Held low for an adjustable timeout after VM input is above threshold.", 9 EP (power) "Exposed Pad may be left open or connected to device ground."

## LTC2916ITS8-1#PBF
designator U?
Low Voltage Supervisor with 9 Selectable Thresholds and Manual Reset Input, 8-pin SOT23 (TS8-8), -40 to 85 degC, Pb-Free; Manufacturer: Linear Technology; PartNumber: LTC2916ITS8-1#PBF; Number of Supplies(#): 1; DatasheetVersion: Rev. A; PackageVersion: Rev. A, 08/2010; PackageReference: TS8-8; PackageDescription: 8-Pin Plastic TSOT-23, Body 2.9 x 1.63 mm, Pitch 0.65 mm; Supplier 1: Farnell; Supplier Part Number 1: 2308607; Supplier 2: Newark; Supplier Part Number 2: 59T9909; RoHS: TRUE; Mounting Technology: Surface Mount; Code_JEDEC: MO-193; ComponentLink1Description: Manufacturer URL; ComponentLink1URL: http://www.linear.com/; ComponentLink2Description: Datasheet; ComponentLink2URL: http://cds.linear.com/docs/en/datasheet/29156fa.pdf; ComponentLink3Description: Package Specification; ComponentLink3URL: http://cds.linear.com/docs/en/packaging/SOT_8_05-08-1637.pdf
footprint LT-TS8-8-TSOT-23_V (SOT23, 8-Leads, Body 2.9x1.75mm, Pitch 0.65mm)
pins: 1 VM (in) "Voltage Monitor Input to R\S\T\ Comparator. SEL1, SEL2 and TOL inputs select the exact threshold that asserts the R\S\T\ output.", 2 SEL1 (in) "Monitor Voltage Select Three-State Inputs. SEL1 and SEL2 control the nominal threshold voltage that VM is set to monitor. Connect to VCC, GND or leave unconnected in open state. (See Table 1).", 3 ~{MR} (in) "Manual Reset Input (Active Low). A low level on the M\R\ input causes the part to issue a reset, which is released one reset timeout after the input goes high. The pin has an internal 100k pull-up to VCC, and thus may (See Datasheet)", 4 GND (power) "Device Ground.", 5 ~{RST} (oc) "Open Drain R\S\T\ Output. Asserts low when VM is below the threshold selected by SEL1, SEL2 and TOL input pins. Held low for an adjustable timeout after VM input is above threshold.", 6 RT (in) "Reset Timeout Control Pin. Attach an external Capacitor (CRT) to GND to set a reset timeout of 9ms/nF. Floating RT generates a reset timeout of approximately 400us. Tie RT to VCC to generate a reset timeout of approximately (See Datasheet)", 7 SEL2 (in) "Monitor Voltage Select Three-State Inputs. SEL1 and SEL2 control the nominal threshold voltage that VM is set to monitor. Connect to VCC, GND or leave unconnected in open state. (See Table 1).", 8 VCC (power) "Power Supply Input. Bypass this pin to ground with a 0.1uF ceramic capacitor. A minimum of 1.5V on VCC ensures that the part is out of under voltage lockout and that the voltage thresholds are accurate. Operates as a direct (See Datasheet)"

## LTC2916ITS8-1#TRMPBF
designator U?
Low Voltage Supervisor with 9 Selectable Thresholds and Manual Reset Input, 8-pin SOT23 (TS8-8), -40 to 85 degC, Pb-Free, Mini Tape and Reel; Manufacturer: Linear Technology; PartNumber: LTC2916ITS8-1#TRMPBF; Number of Supplies(#): 1; DatasheetVersion: Rev. A; PackageVersion: Rev. A, 08/2010; PackageReference: TS8-8; PackageDescription: 8-Pin Plastic TSOT-23, Body 2.9 x 1.63 mm, Pitch 0.65 mm; Supplier 1: Digi-Key; Supplier Part Number 1: LTC2916ITS8-1#TRMPBFTR-ND; Supplier 2: Digi-Key; Supplier Part Number 2: LTC2916ITS8-1#TRMPBFCT-ND; Supplier 3: Digi-Key; Supplier Part Number 3: LTC2916ITS8-1#TRMPBFDKR-ND; Supplier 4: Newark; Supplier Part Number 4: 56M6967; Packing: Mini Tape and Reel; RoHS: TRUE; Mounting Technology: Surface Mount; Code_JEDEC: MO-193; ComponentLink1Description: Manufacturer URL; ComponentLink1URL: http://www.linear.com/; ComponentLink2Description: Datasheet; ComponentLink2URL: http://cds.linear.com/docs/en/datasheet/29156fa.pdf; ComponentLink3Description: Package Specification; ComponentLink3URL: http://cds.linear.com/docs/en/packaging/SOT_8_05-08-1637.pdf
footprint LT-TS8-8-TSOT-23_V (SOT23, 8-Leads, Body 2.9x1.75mm, Pitch 0.65mm)
pins: 1 VM (in) "Voltage Monitor Input to R\S\T\ Comparator. SEL1, SEL2 and TOL inputs select the exact threshold that asserts the R\S\T\ output.", 2 SEL1 (in) "Monitor Voltage Select Three-State Inputs. SEL1 and SEL2 control the nominal threshold voltage that VM is set to monitor. Connect to VCC, GND or leave unconnected in open state. (See Table 1).", 3 ~{MR} (in) "Manual Reset Input (Active Low). A low level on the M\R\ input causes the part to issue a reset, which is released one reset timeout after the input goes high. The pin has an internal 100k pull-up to VCC, and thus may (See Datasheet)", 4 GND (power) "Device Ground.", 5 ~{RST} (oc) "Open Drain R\S\T\ Output. Asserts low when VM is below the threshold selected by SEL1, SEL2 and TOL input pins. Held low for an adjustable timeout after VM input is above threshold.", 6 RT (in) "Reset Timeout Control Pin. Attach an external Capacitor (CRT) to GND to set a reset timeout of 9ms/nF. Floating RT generates a reset timeout of approximately 400us. Tie RT to VCC to generate a reset timeout of approximately (See Datasheet)", 7 SEL2 (in) "Monitor Voltage Select Three-State Inputs. SEL1 and SEL2 control the nominal threshold voltage that VM is set to monitor. Connect to VCC, GND or leave unconnected in open state. (See Table 1).", 8 VCC (power) "Power Supply Input. Bypass this pin to ground with a 0.1uF ceramic capacitor. A minimum of 1.5V on VCC ensures that the part is out of under voltage lockout and that the voltage thresholds are accurate. Operates as a direct (See Datasheet)"